# Altium integrated library HTLinn_Logic_TTL.IntLib: 17 symbols
Pins are listed as number, name and electrical type; pins without a type are passive.

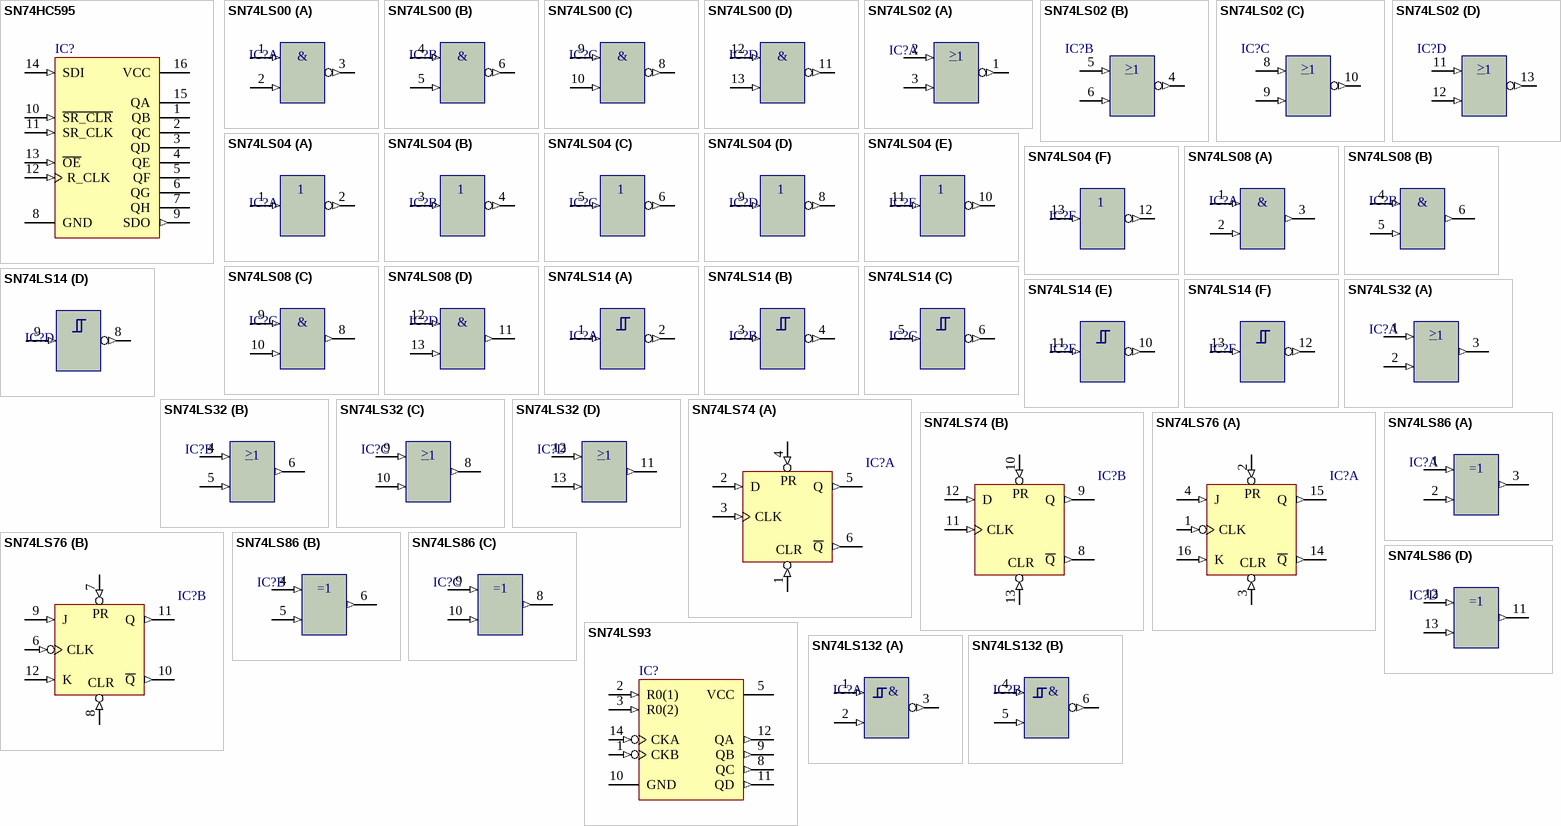
[diagram p0: symbols SN74HC595 to SN74LS132]

## SN74HC595
designator IC?  (value not drawn)
8-Bit Shift Register with 3-State Output Registers; Usage: only permitted for non-commercial purposes at HTL I Innsbruck; SimModellSource: <no SimModell found so far>; Published: 03-Jun-2011; LatestRevisionDate: 31-Oct-2012; Publisher: Michael Kupfner
footprint DIP16 (DIP; 16 Leads; Row Spacing 7.62 mm; Pitch 2.54 mm)
signal-integrity model SN74HC595
pins: 1 QB (hiz), 2 QC (hiz), 3 QD (hiz), 4 QE (hiz), 5 QF (hiz), 6 QG (hiz), 7 QH (hiz), 8 GND (power), 9 SDO (out), 10 ~{SR_CLR} (in), 11 SR_CLK (in), 12 R_CLK (in), 13 ~{OE} (in), 14 SDI (in), 15 QA (hiz), 16 VCC (power)

## SN74LS00
designator IC?  (value not drawn)
Quad 2-Input Positive-NAND Gate; SimulationModellSource: TI Logic Gate 2; Usage: only permitted for non-commercial purposes at HTL I Innsbruck; Published: 21-Feb-2011; LatestRevisionDate: 31-Oct-2012; Publisher: Michael Kupfner
simulation model SN74LS00 (SIMCODE)
signal-integrity model SN74LS00
footprint DIP14 (DIP; 14 Leads; Row Spacing 7.62 mm; Pitch 2.54 mm)
pins on every part: 7 GND (power) hidden to GND, 14 VCC (power) hidden to VCC
part A pins: 1 A (in), 2 B (in), 3 Y (out)
part B pins: 4 A (in), 5 B (in), 6 Y (out)
part C pins: 8 Y (out), 9 A (in), 10 B (in)
part D pins: 11 Y (out), 12 A (in), 13 B (in)
1 alternate drawing of the same symbol
part A text: &
part B text: &
part C text: &
part D text: &

## SN74LS02
designator IC?  (value not drawn)
Quad 2-Input Positive-NOR Gate; SimulationModellSource: TI Logic Gate 2; Usage: only permitted for non-commercial purposes at HTL I Innsbruck; Published: 21-Feb-2011; LatestRevisionDate: 31-Oct-2012; Publisher: Michael Kupfner
simulation model SN74LS02 (SIMCODE)
signal-integrity model SN74LS02
footprint DIP14 (DIP; 14 Leads; Row Spacing 7.62 mm; Pitch 2.54 mm)
pins on every part: 7 GND (power) hidden to GND, 14 VCC (power) hidden to VCC
part A pins: 1 Y (out), 2 A (in), 3 B (in)
part B pins: 4 Y (out), 5 A (in), 6 B (in)
part C pins: 8 A (in), 9 B (in), 10 Y (out)
part D pins: 11 A (in), 12 B (in), 13 Y (out)
1 alternate drawing of the same symbol
part A text: >
part B text: >
part C text: >
part D text: >

## SN74LS04
designator IC?  (value not drawn)
Hex Inverter; SimulationModellSource: TI Logic Gate 2; Usage: only permitted for non-commercial purposes at HTL I Innsbruck; Published: 21-Feb-2011; LatestRevisionDate: 31-Oct-2012; Publisher: Michael Kupfner
simulation model SN74LS04 (SIMCODE)
signal-integrity model SN74LS04
footprint DIP14 (DIP; 14 Leads; Row Spacing 7.62 mm; Pitch 2.54 mm)
pins on every part: 7 GND (power) hidden to GND, 14 VCC (power) hidden to VCC
part A pins: 1 A (in), 2 Y (out)
part B pins: 3 A (in), 4 Y (out)
part C pins: 5 A (in), 6 Y (out)
part D pins: 8 Y (out), 9 A (in)
part E pins: 10 Y (out), 11 A (in)
part F pins: 12 Y (out), 13 A (in)
1 alternate drawing of the same symbol

## SN74LS08
designator IC?  (value not drawn)
Quad 2-Input Positive-AND Gate; SimulationModellSource: TI Logic Gate 2; Usage: only permitted for non-commercial purposes at HTL I Innsbruck; Published: 21-Feb-2011; LatestRevisionDate: 31-Oct-2012; Publisher: Michael Kupfner
simulation model SN74LS08 (SIMCODE)
signal-integrity model SN74LS08
footprint DIP14 (DIP; 14 Leads; Row Spacing 7.62 mm; Pitch 2.54 mm)
pins on every part: 7 GND (power) hidden to GND, 14 VCC (power) hidden to VCC
part A pins: 1 A (in), 2 B (in), 3 Y (out)
part B pins: 4 A (in), 5 B (in), 6 Y (out)
part C pins: 8 Y (out), 9 A (in), 10 B (in)
part D pins: 11 Y (out), 12 A (in), 13 B (in)
1 alternate drawing of the same symbol
part A text: &
part B text: &
part C text: &
part D text: &

## SN74LS14
designator IC?  (value not drawn)
Hex Schmitt-Trigger Inverter; SimulationModellSource: TI Logic Gate 2; Usage: only permitted for non-commercial purposes at HTL I Innsbruck; Published: 21-Feb-2011; LatestRevisionDate: 31-Oct-2012; Publisher: Michael Kupfner
simulation model SN74LS14 (SIMCODE)
signal-integrity model SN74LS14
footprint DIP14 (DIP; 14 Leads; Row Spacing 7.62 mm; Pitch 2.54 mm)
pins on every part: 7 GND (power) hidden to GND, 14 VCC (power) hidden to VCC
part A pins: 1 A (in), 2 Y (out)
part B pins: 3 A (in), 4 Y (out)
part C pins: 5 A (in), 6 Y (out)
part D pins: 8 Y (out), 9 A (in)
part E pins: 10 Y (out), 11 A (in)
part F pins: 12 Y (out), 13 A (in)
1 alternate drawing of the same symbol

## SN74LS32
designator IC?  (value not drawn)
Quad 2-Input Positive-OR Gate; SimulationModellSource: TI Logic Gate 2; Usage: only permitted for non-commercial purposes at HTL I Innsbruck; Published: 21-Feb-2011; LatestRevisionDate: 31-Oct-2012; Publisher: Michael Kupfner
simulation model SN74LS32 (SIMCODE)
signal-integrity model SN74LS32
footprint DIP14 (DIP; 14 Leads; Row Spacing 7.62 mm; Pitch 2.54 mm)
pins on every part: 7 GND (power) hidden to GND, 14 VCC (power) hidden to VCC
part A pins: 1 A (in), 2 B (in), 3 Y (out)
part B pins: 4 A (in), 5 B (in), 6 Y (out)
part C pins: 8 Y (out), 9 A (in), 10 B (in)
part D pins: 11 Y (out), 12 A (in), 13 B (in)
1 alternate drawing of the same symbol
part A text: >
part B text: >
part C text: >
part D text: >

## SN74LS74
designator IC?  (value not drawn)
Dual D-Type Positive-Edge-Triggered Flip-Flop with Preset and Clear; Usage: only permitted for non-commercial purposes at HTL I Innsbruck; SimulationModellSource: TI Logic Flip-Flop; Published: 21-Feb-2011; LatestRevisionDate: 31-Oct-2012
simulation model SN74LS74 (SIMCODE)
signal-integrity model SN74LS74
footprint DIP14 (DIP; 14 Leads; Row Spacing 7.62 mm; Pitch 2.54 mm)
pins on every part: 7 GND (power) hidden to GND, 14 VCC (power) hidden to VCC
part A pins: 1 CLR (in), 2 D (in), 3 CLK (in), 4 PR (in), 5 Q (out), 6 ~{Q} (out)
part B pins: 8 ~{Q} (out), 9 Q (out), 10 PR (in), 11 CLK (in), 12 D (in), 13 CLR (in)

## SN74LS76
designator IC?  (value not drawn)
Dual J-K Flip-Flop with Preset and Clear; Usage: only permitted for non-commercial purposes at HTL I Innsbruck; SimulationModellSource: TI Logic Flip-Flop; Published: 21-Feb-2011; LatestRevisionDate: 31-Oct-2012
simulation model SN74LS76A (SIMCODE)
signal-integrity model SN74LS76
footprint DIP16 (DIP; 16 Leads; Row Spacing 7.62 mm; Pitch 2.54 mm)
pins on every part: 5 VCC (power) hidden to VCC, 13 GND (power) hidden to GND
part A pins: 1 CLK (in), 2 PR (in), 3 CLR (in), 4 J (in), 14 ~{Q} (out), 15 Q (out), 16 K (in)
part B pins: 6 CLK (in), 7 PR (in), 8 CLR (in), 9 J (in), 10 ~{Q} (out), 11 Q (out), 12 K (in)

## SN74LS86
designator IC?  (value not drawn)
Quad 2-Input Exclusive-OR Gate; SimulationModellSource: TI Logic Gate 2; Usage: only permitted for non-commercial purposes at HTL I Innsbruck; Published: 21-Feb-2011; LatestRevisionDate: 31-Oct-2012; Publisher: Michael Kupfner
simulation model SN74LS86 (SIMCODE)
signal-integrity model SN74LS86
footprint DIP14 (DIP; 14 Leads; Row Spacing 7.62 mm; Pitch 2.54 mm)
pins on every part: 7 GND (power) hidden to GND, 14 VCC (power) hidden to VCC
part A pins: 1 A (in), 2 B (in), 3 Y (out)
part B pins: 4 A (in), 5 B (in), 6 Y (out)
part C pins: 8 Y (out), 9 A (in), 10 B (in)
part D pins: 11 Y (out), 12 A (in), 13 B (in)
1 alternate drawing of the same symbol

## SN74LS93
designator IC?  (value not drawn)
4-Bit Binary Counter; Usage: only permitted for non-commercial purposes at HTL I Innsbruck; SimulationModellSource: TI Logic Counter; Published: 21-Feb-2011; LatestRevisionDate: 31-Oct-2012
simulation model SN74LS93 (SIMCODE)
signal-integrity model SN74LS93
footprint DIP14 (DIP; 14 Leads; Row Spacing 7.62 mm; Pitch 2.54 mm)
pins: 1 CKB (in), 2 R0(1) (in), 3 R0(2) (in), 5 VCC (power), 8 QC (out), 9 QB (out), 10 GND (power), 11 QD (out), 12 QA (out), 14 CKA (in)

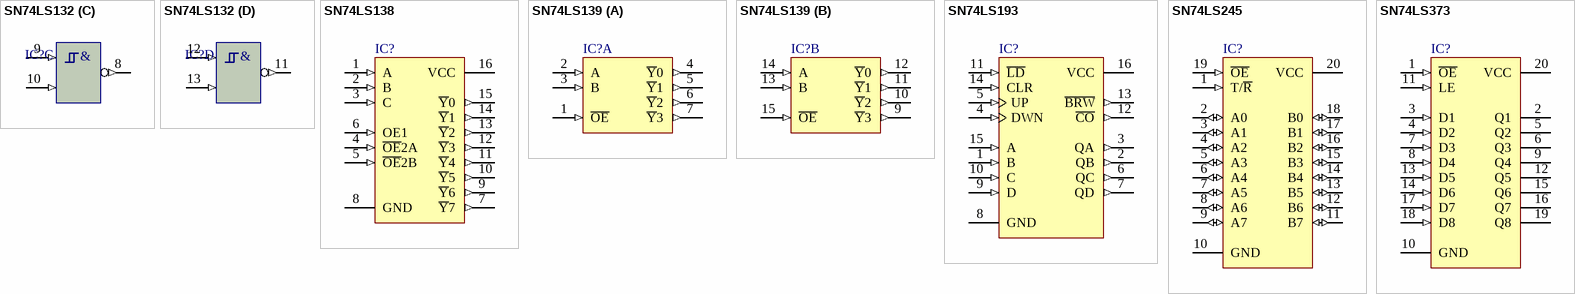
[diagram p1: symbols SN74LS132 to SN74LS373]

## SN74LS132
designator IC?  (value not drawn)
Quad 2-Input Positive-NAND Schmitt Trigger; Usage: only permitted for non-commercial purposes at HTL I Innsbruck; SimulationModellSource: TI Logic Gate 2; Published: 21-Feb-2011; LatestRevisionDate: 31-Oct-2012; Publisher: Michael Kupfner
simulation model SN74LS132 (SIMCODE)
signal-integrity model SN74LS132
footprint DIP14 (DIP; 14 Leads; Row Spacing 7.62 mm; Pitch 2.54 mm)
pins on every part: 7 GND (power) hidden to GND, 14 VCC (power) hidden to VCC
part A pins: 1 A (in), 2 B (in), 3 Y (out)
part B pins: 4 A (in), 5 B (in), 6 Y (out)
part C pins: 8 Y (out), 9 A (in), 10 B (in)
part D pins: 11 Y (out), 12 A (in), 13 B (in)
1 alternate drawing of the same symbol
part A text: &
part B text: &
part C text: &
part D text: &

## SN74LS138
designator IC?  (value not drawn)
3-Line to 8-Line Decoder / Demultiplexer; Usage: only permitted for non-commercial purposes at HTL I Innsbruck; SimulationModellSource: TI Logic Decoder Demux; Published: 21-Feb-2011; LatestRevisionDate: 31-Oct-2012
simulation model SN74LS138 (SIMCODE)
signal-integrity model SN74LS138
footprint DIP16 (DIP; 16 Leads; Row Spacing 7.62 mm; Pitch 2.54 mm)
pins: 1 A (in), 2 B (in), 3 C (in), 4 ~{OE}2A (in), 5 ~{OE}2B (in), 6 OE1 (in), 7 ~{Y}7 (out), 8 GND (power), 9 ~{Y}6 (out), 10 ~{Y}5 (out), 11 ~{Y}4 (out), 12 ~{Y}3 (out), 13 ~{Y}2 (out), 14 ~{Y}1 (out), 15 ~{Y}0 (out), 16 VCC (power)

## SN74LS139
designator IC?  (value not drawn)
Dual 2-Line to 4-Line Decoder / Demultiplexer; Usage: only permitted for non-commercial purposes at HTL I Innsbruck; SimulationModellSource: TI Logic Decoder Demux; Published: 21-Feb-2011; LatestRevisionDate: 31-Oct-2012
simulation model SN74LS139 (SIMCODE)
signal-integrity model SN74LS139
footprint DIP16 (DIP; 16 Leads; Row Spacing 7.62 mm; Pitch 2.54 mm)
pins on every part: 8 GND (power) hidden to GND, 16 VCC (power) hidden to VCC
part A pins: 1 ~{OE} (in), 2 A (in), 3 B (in), 4 ~{Y}0 (out), 5 ~{Y}1 (out), 6 ~{Y}2 (out), 7 ~{Y}3 (out)
part B pins: 9 ~{Y}3 (out), 10 ~{Y}2 (out), 11 ~{Y}1 (out), 12 ~{Y}0 (out), 13 B (in), 14 A (in), 15 ~{OE} (in)

## SN74LS193
designator IC?  (value not drawn)
Synchronous 4-Bit Up/Down Counter (Dual Clock with Clear); Usage: only permitted for non-commercial purposes at HTL I Innsbruck; SimulationModellSource: TI Logic Counter; Published: 21-Feb-2011; LatestRevisionDate: 31-Oct-2012
simulation model SN74LS193 (SIMCODE)
signal-integrity model SN74LS193
footprint DIP16 (DIP; 16 Leads; Row Spacing 7.62 mm; Pitch 2.54 mm)
pins: 1 B (in), 2 QB (out), 3 QA (out), 4 DWN (in), 5 UP (in), 6 QC (out), 7 QD (out), 8 GND (power), 9 D (in), 10 C (in), 11 ~{LD} (in), 12 ~{CO} (out), 13 ~{BRW} (out), 14 CLR (in), 15 A (in), 16 VCC (power)

## SN74LS245
designator IC?  (value not drawn)
Octal Bus Transceiver with 3-State Outputs; Usage: only permitted for non-commercial purposes at HTL I Innsbruck; SimulationModellSource: TI Interface 8-Bit Line Transceiver; Published: 21-Feb-2011; LatestRevisionDate: 31-Oct-2012
simulation model SN74LS245 (SIMCODE)
signal-integrity model SN74LS245
footprint DIP20 (DIP; 20 Leads; Row Spacing 7.62 mm; Pitch 2.54 mm)
pins: 1 T/~{R} (in), 2 A0 (io), 3 A1 (io), 4 A2 (io), 5 A3 (io), 6 A4 (io), 7 A5 (io), 8 A6 (io), 9 A7 (io), 10 GND (power), 11 B7 (io), 12 B6 (io), 13 B5 (io), 14 B4 (io), 15 B3 (io), 16 B2 (io), 17 B1 (io), 18 B0 (io), 19 ~{OE} (in), 20 VCC (power)

## SN74LS373
designator IC?  (value not drawn)
Octal D-Type Transparent Latche and Edge-Triggered Flip-Flops; Usage: only permitted for non-commercial purposes at HTL I Innsbruck; SimulationModellSource: TI Logic Latch; Published: 21-Feb-2011; LatestRevisionDate: 31-Oct-2012
simulation model SN74LS373 (SIMCODE)
signal-integrity model SN74LS373
footprint DIP20 (DIP; 20 Leads; Row Spacing 7.62 mm; Pitch 2.54 mm)
pins: 1 ~{OE} (in), 2 Q1 (hiz), 3 D1 (in), 4 D2 (in), 5 Q2 (hiz), 6 Q3 (hiz), 7 D3 (in), 8 D4 (in), 9 Q4 (hiz), 10 GND (power), 11 LE (in), 12 Q5 (hiz), 13 D5 (in), 14 D6 (in), 15 Q6 (hiz), 16 Q7 (hiz), 17 D7 (in), 18 D8 (in), 19 Q8 (hiz), 20 VCC (power)